# EAGLE library part MMA8452QR1 (library Common-Parts-Library-Eagle)
MMA8452Q, 3-axis, 12-bit/8-bit digital accelerometer
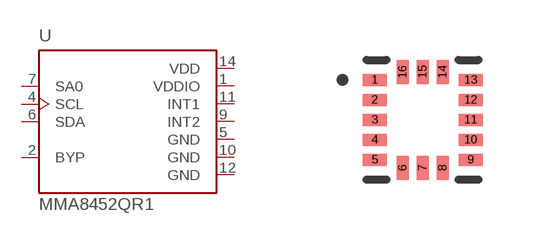
[diagram p61: symbol with the pads of PQFN50P300X300X100-16N; footprint PQFN50P300X300X100-16N]

Designator prefix U

## MMA8452QR1 (MANUFACTURER: Freescale Semiconductor)  [PQFN50P300X300X100-16N]
1  VDDIO  pwr
2  BYP  pas
4  SCL  in
5  GND  pwr
6  SDA
7  SA0  in
9  INT2  out
10  GND  pwr
11  INT1  out
12  GND  pwr
14  VDD  pwr

## Footprint PQFN50P300X300X100-16N (pad centres in mm)
smd 0.6 x 0.3: 1 -1.2,1; 2 -1.2,0.5; 3 -1.2,0; 4 -1.2,-0.5; 5 -1.2,-1; 9 1.2,-1; 10 1.2,-0.5; 11 1.2,0; 12 1.2,0.5; 13 1.2,1
smd 0.3 x 0.6: 6 -0.5,-1.2; 7 0,-1.2; 8 0.5,-1.2; 14 0.5,1.2; 15 0,1.2; 16 -0.5,1.2